# Altium schematic symbol library Schlib1.SchLib: 6 symbols
Pins are listed as number, name and electrical type; pins without a type are passive.

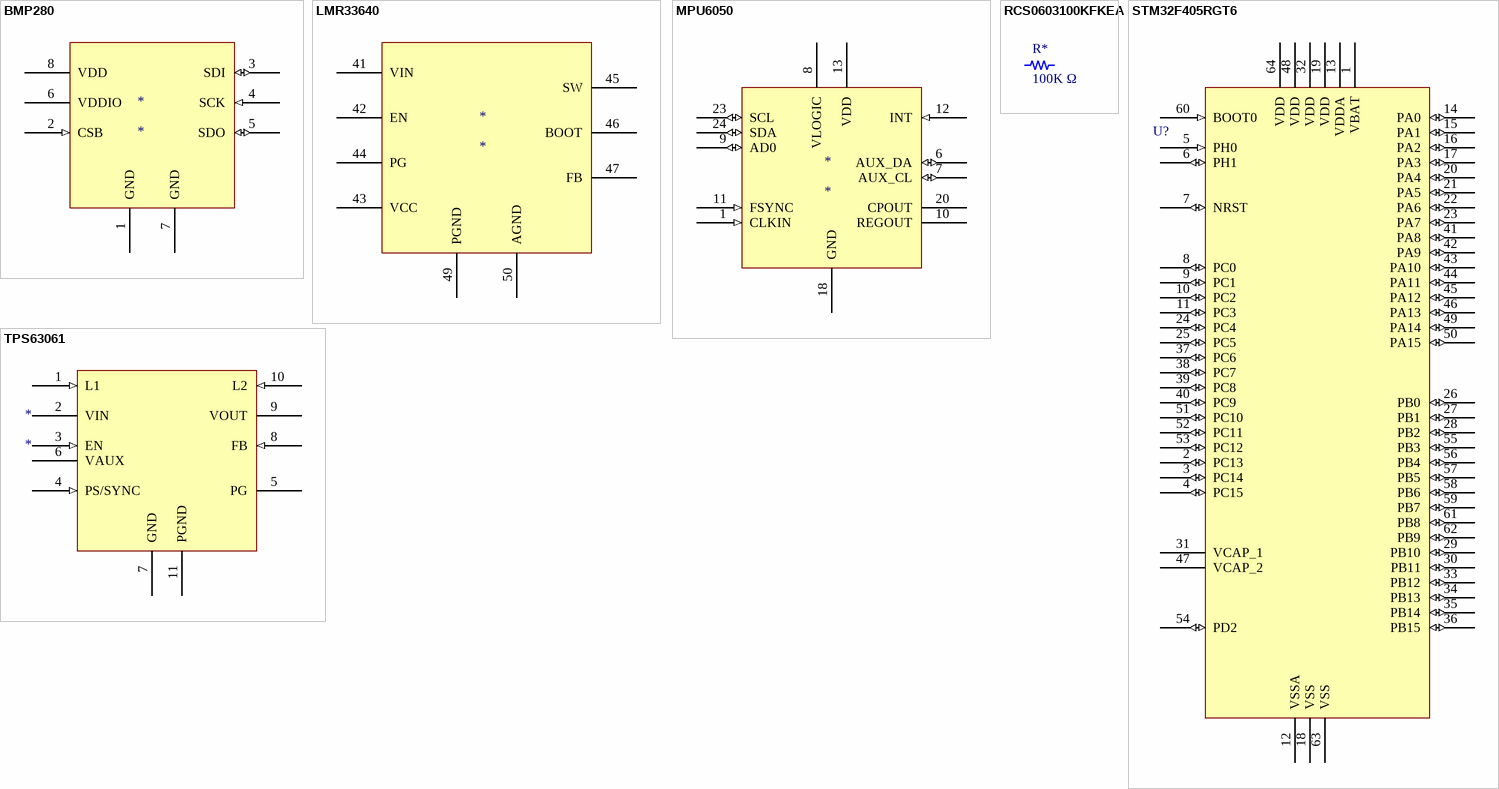
[diagram p0: symbols BMP280 to TPS63061]

## BMP280
designator *
pins: 1 GND (power), 2 CSB (in), 3 SDI (io), 4 SCK (in), 5 SDO (io), 6 VDDIO (power), 7 GND (power), 8 VDD (power)

## LMR33640
designator *
pins: 41 VIN, 42 EN, 43 VCC, 44 PG, 45 SW, 46 BOOT, 47 FB, 49 PGND, 50 AGND

## MPU6050
designator *
pins: 1 CLKIN (in), 6 AUX_DA (io), 7 AUX_CL (io), 8 VLOGIC (power), 9 AD0 (io), 10 REGOUT (power), 11 FSYNC (in), 12 INT (in), 13 VDD (power), 18 GND (power), 20 CPOUT (power), 23 SCL (io), 24 SDA (io)

## RCS0603100KFKEA
designator R*, comment 100K Ω

## STM32F405RGT6
designator U?
MCU
pins: 1 VBAT (power), 2 PC13 (io), 3 PC14 (io), 4 PC15 (io), 5 PH0 (in), 6 PH1 (io), 7 NRST (io), 8 PC0 (io), 9 PC1 (io), 10 PC2 (io), 11 PC3 (io), 12 VSSA (power), 13 VDDA (power), 14 PA0 (io), 15 PA1 (io), 16 PA2 (io), 17 PA3 (io), 18 VSS (power), 19 VDD (power), 20 PA4 (io), 21 PA5 (io), 22 PA6 (io), 23 PA7 (io), 24 PC4 (io), 25 PC5 (io), 26 PB0 (io), 27 PB1 (io), 28 PB2 (io), 29 PB10 (io), 30 PB11 (io), 31 VCAP_1 (power), 32 VDD (power), 33 PB12 (io), 34 PB13 (io), 35 PB14 (io), 36 PB15 (io), 37 PC6 (io), 38 PC7 (io), 39 PC8 (io), 40 PC9 (io), 41 PA8 (io), 42 PA9 (io), 43 PA10 (io), 44 PA11 (io), 45 PA12 (io), 46 PA13 (io), 47 VCAP_2 (power), 48 VDD (power), 49 PA14 (io), 50 PA15 (io), 51 PC10 (io), 52 PC11 (io), 53 PC12 (io), 54 PD2 (io), 55 PB3 (io), 56 PB4 (io), 57 PB5 (io), 58 PB6 (io), 59 PB7 (io), 60 BOOT0 (in), 61 PB8 (io), 62 PB9 (io), 63 VSS (power), 64 VDD (power)

## TPS63061
designator *
pins: 1 L1 (in), 2 VIN (power), 3 EN (in), 4 PS/SYNC (in), 5 PG (power), 6 VAUX (power), 7 GND (power), 8 FB (in), 9 VOUT (power), 10 L2 (in), 11 PGND (power)